# Altium footprint library PCB - LEADLESS - MISC - SKYWORKS MCM-12 8.4X8.4MM.PCBLIB: 1 footprints
Each footprint in its own frame and in the unit in brackets; x right, y up, seen from the top. Pads: shape width x height; smd on the part's side, far side on the other; paste and mask are expansions set on the pad; w line width, h text height; cw(c..) or ccw(c..) is an arc to the next point about the centre after c.
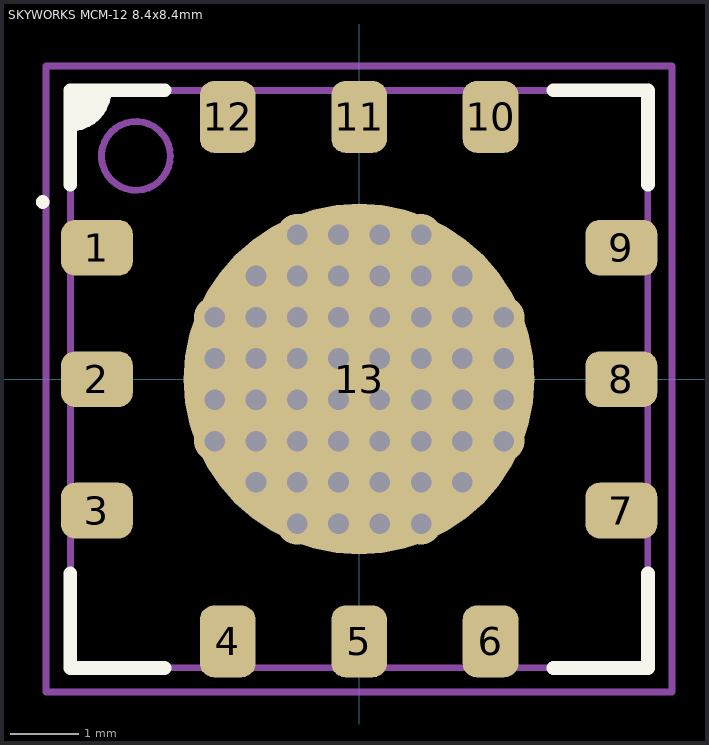
[diagram p0: the footprint, top view; thin cyan lines are the x and y axes]

## SKYWORKS MCM-12 8.4x8.4mm [mm] "QFN, 12-Leads, Body 8.4x8.4mm (max), Pitch 1.91mm, IPC High Density"
height 1.55
pads (13):
  rrect50% 1.043x0.81 smd: 1(-3.812,1.91) 2(-3.812,0) 3(-3.812,-1.91) 7(3.812,-1.91) 8(3.812,0) 9(3.812,1.91)
  rrect50% 0.81x1.043 smd: 4(-1.91,-3.812) 5(0,-3.812) 6(1.91,-3.812) 10(1.91,3.812) 11(0,3.812) 12(-1.91,3.812)
  round 5.1 smd: 13(0,0)
via -0.9,0.3 diameter 0.6 hole 0.3
via -1.5,0.3 diameter 0.6 hole 0.3
via -2.1,0.3 diameter 0.6 hole 0.3
via -2.1,0.9 diameter 0.6 hole 0.3
via -1.5,0.9 diameter 0.6 hole 0.3
via -0.9,0.9 diameter 0.6 hole 0.3
via -0.3,0.9 diameter 0.6 hole 0.3
via -1.5,1.5 diameter 0.6 hole 0.3
via -0.9,1.5 diameter 0.6 hole 0.3
via -0.3,1.5 diameter 0.6 hole 0.3
via -0.3,2.1 diameter 0.6 hole 0.3
via -0.9,2.1 diameter 0.6 hole 0.3
via -0.3,0.3 diameter 0.6 hole 0.3
via 0.9,0.3 diameter 0.6 hole 0.3
via 1.5,0.3 diameter 0.6 hole 0.3
via 2.1,0.3 diameter 0.6 hole 0.3
via 2.1,0.9 diameter 0.6 hole 0.3
via 1.5,0.9 diameter 0.6 hole 0.3
via 0.9,0.9 diameter 0.6 hole 0.3
via 0.3,0.9 diameter 0.6 hole 0.3
via 1.5,1.5 diameter 0.6 hole 0.3
via 0.9,1.5 diameter 0.6 hole 0.3
via 0.3,1.5 diameter 0.6 hole 0.3
via 0.3,2.1 diameter 0.6 hole 0.3
via 0.9,2.1 diameter 0.6 hole 0.3
via 0.3,0.3 diameter 0.6 hole 0.3
via -0.9,-0.3 diameter 0.6 hole 0.3
via -1.5,-0.3 diameter 0.6 hole 0.3
via -2.1,-0.3 diameter 0.6 hole 0.3
via -2.1,-0.9 diameter 0.6 hole 0.3
via -1.5,-0.9 diameter 0.6 hole 0.3
via -0.9,-0.9 diameter 0.6 hole 0.3
via -0.3,-0.9 diameter 0.6 hole 0.3
via -1.5,-1.5 diameter 0.6 hole 0.3
via -0.9,-1.5 diameter 0.6 hole 0.3
via -0.3,-1.5 diameter 0.6 hole 0.3
via -0.3,-2.1 diameter 0.6 hole 0.3
via -0.9,-2.1 diameter 0.6 hole 0.3
via -0.3,-0.3 diameter 0.6 hole 0.3
via 0.9,-0.3 diameter 0.6 hole 0.3
via 1.5,-0.3 diameter 0.6 hole 0.3
via 2.1,-0.3 diameter 0.6 hole 0.3
via 2.1,-0.9 diameter 0.6 hole 0.3
via 1.5,-0.9 diameter 0.6 hole 0.3
via 0.9,-0.9 diameter 0.6 hole 0.3
via 0.3,-0.9 diameter 0.6 hole 0.3
via 1.5,-1.5 diameter 0.6 hole 0.3
via 0.9,-1.5 diameter 0.6 hole 0.3
via 0.3,-1.5 diameter 0.6 hole 0.3
via 0.3,-2.1 diameter 0.6 hole 0.3
via 0.9,-2.1 diameter 0.6 hole 0.3
via 0.3,-0.3 diameter 0.6 hole 0.3
Top Overlay:
  circle w0.1: c-4.6,2.575 r0.05
  region: -3.7,4.2 -4.2,4.2 -4.2,3.7 -4,3.7 -3.7,4
  lines w0.2: -4.2,-2.825 -4.2,-4.2 -2.825,-4.2 ; -4.2,2.825 -4.2,4.2 -2.825,4.2 ; -4.2,3.7 ccw(c-4.2,4.2) -3.7,4.2 ; 2.825,-4.2 4.2,-4.2 4.2,-2.825 ; 2.825,4.2 4.2,4.2 4.2,2.825
Mechanical 13:
  circle w0.1: c-3.245,3.245 r0.5
  lines w0.1: -4.195,-4.195 -4.195,4.195 4.195,4.195 4.195,-4.195 -4.195,-4.195
Mechanical 15:
  lines w0.1: -0.5,0 0.5,0 ; 0,-0.5 0,0.5 ; -4.55,-4.55 -4.55,4.55 4.55,4.55 4.55,-4.55 -4.55,-4.55
3D body "SKY65116.STEP": height 1.45, standoff 0, extent -4.192,-4.192 4.193,4.193